# EAGLE library part MKL03Z8VFG4 (library Freescale)
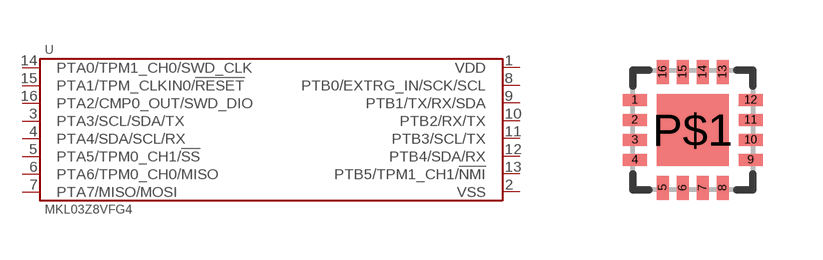
[diagram p3: symbol with the pads of QFN-16-3MM; footprint QFN-16-3MM]

Designator prefix U

## MKL03Z8VFG4  [QFN-16-3MM]
1  VDD
2  VSS
3  PTA3/SCL/SDA/TX
4  PTA4/SDA/SCL/RX
5  PTA5/TPM0_CH1/!SS
6  PTA6/TPM0_CH0/MISO
7  PTA7/MISO/MOSI
8  PTB0/EXTRG_IN/SCK/SCL
9  PTB1/TX/RX/SDA
10  PTB2/RX/TX
11  PTB3/SCL/TX
12  PTB4/SDA/RX
13  PTB5/TPM1_CH1/!NMI
14  PTA0/TPM1_CH0/SWD_CLK
15  PTA1/TPM_CLKIN0/!RESET
16  PTA2/CMP0_OUT/SWD_DIO

## Footprint QFN-16-3MM (pad centres in mm)
smd 0.6 x 0.3: 1 -1.45,0.75; 2 -1.45,0.25; 3 -1.45,-0.25; 4 -1.45,-0.75; 9 1.45,-0.75; 10 1.45,-0.25; 11 1.45,0.25; 12 1.45,0.75
smd 0.3 x 0.6: 5 -0.75,-1.45; 6 -0.25,-1.45; 7 0.25,-1.45; 8 0.75,-1.45; 13 0.75,1.45; 14 0.25,1.45; 15 -0.25,1.45; 16 -0.75,1.45
smd 1.8 x 1.8: P$1 0,0